# Altium footprint library STM32_footprint.PcbLib: 1 footprints
Each footprint in its own frame and in the unit in brackets; x right, y up, seen from the top. Pads: shape width x height; smd on the part's side, far side on the other; paste and mask are expansions set on the pad; w line width, h text height; cw(c..) or ccw(c..) is an arc to the next point about the centre after c.
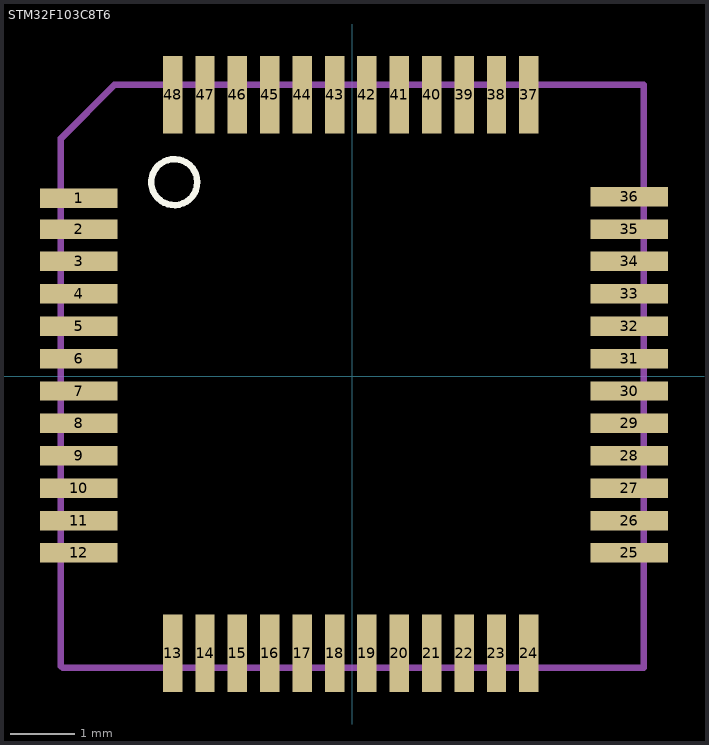
[diagram p0: the footprint, top view; thin cyan lines are the x and y axes]

## STM32F103C8T6 [mm]
pads (48):
  rect 1.2x0.3 smd: 1(-4.225,2.75) 2(-4.225,2.275) 3(-4.225,1.775) 4(-4.225,1.275) 5(-4.225,0.775) 6(-4.225,0.275) 7(-4.225,-0.225) 8(-4.225,-0.725) 9(-4.225,-1.225) 10(-4.225,-1.725) 11(-4.225,-2.225) 12(-4.225,-2.725) 25(4.275,-2.725) 26(4.275,-2.225) 27(4.275,-1.725) 28(4.275,-1.225) 29(4.275,-0.725) 30(4.275,-0.225) 31(4.275,0.275) 32(4.275,0.775) 33(4.275,1.275) 34(4.275,1.775) 35(4.275,2.275) 36(4.275,2.775)
  rect 0.3x1.2 smd: 13(-2.775,-4.275) 14(-2.275,-4.275) 15(-1.775,-4.275) 16(-1.275,-4.275) 17(-0.775,-4.275) 18(-0.275,-4.275) 19(0.225,-4.275) 20(0.725,-4.275) 21(1.225,-4.275) 22(1.725,-4.275) 23(2.225,-4.275) 24(2.725,-4.275) 37(2.725,4.35) 38(2.225,4.35) 39(1.725,4.35) 40(1.225,4.35) 41(0.725,4.35) 42(0.225,4.35) 43(-0.275,4.35) 44(-0.775,4.35) 45(-1.275,4.35) 46(-1.775,4.35) 47(-2.275,4.35) 48(-2.775,4.35)
Top Overlay:
  circle w0.1: c-2.75,3 r0.355
Mechanical 13:
  lines w0.1: -4.5,-4.475 -4.5,-3.75 -4.5,3.675 -3.675,4.5 4.5,4.5 4.5,-4.5 -3.75,-4.5 -4.475,-4.5
3D body "STM32F103C8T6.STEP": height 1.6, standoff 0, extent -4.5,-4.45 4.5,4.55